# EAGLE library part JETSON_NANO (library Jetson_Nano_GPIO)
Jetson Nano GPIO
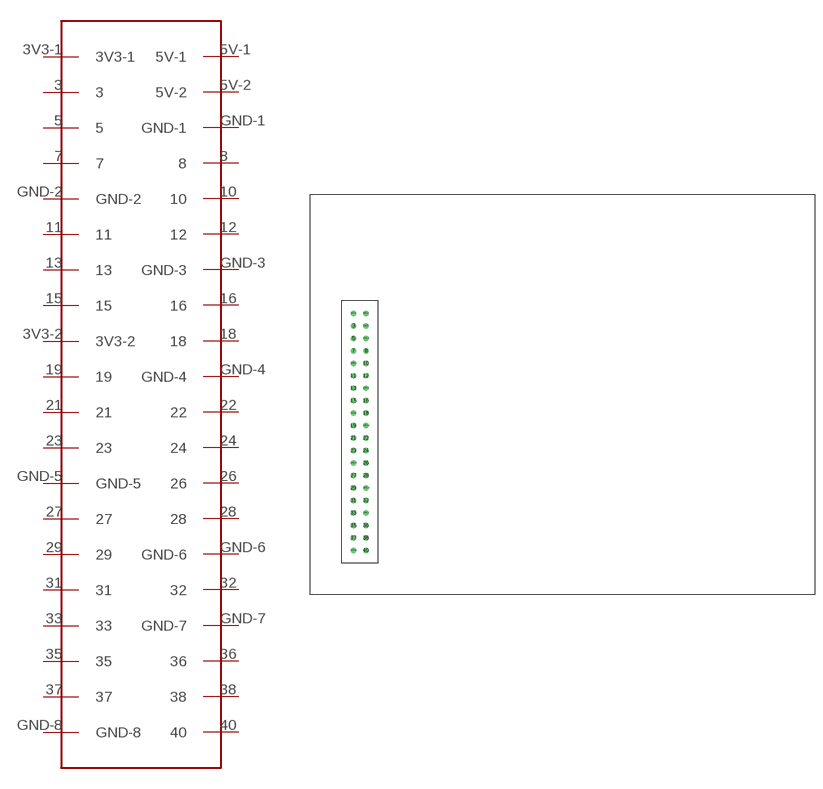
[diagram p0: symbol with the pads of JETSON_NANO; footprint JETSON_NANO]

Designator prefix JN

## JETSON_NANO  [JETSON_NANO]
3  3
3V3-1  3V3-1
3V3-2  3V3-2
5  5
5V-1  5V-1
5V-2  5V-2
7  7
8  8
10  10
11  11
12  12
13  13
15  15
16  16
18  18
19  19
21  21
22  22
23  23
24  24
26  26
27  27
28  28
29  29
31  31
32  32
33  33
35  35
36  36
37  37
38  38
40  40
GND-1  GND-1
GND-2  GND-2
GND-3  GND-3
GND-4  GND-4
GND-5  GND-5
GND-6  GND-6
GND-7  GND-7
GND-8  GND-8

## Footprint JETSON_NANO (pad centres in mm)
Jetson Nano GPIO
drill 0.6: 3 0,45.72; 3V3-1 0,48.26; 3V3-2 0,27.94; 5 0,43.18; 5V-1 2.54,48.26; 5V-2 2.54,45.72; 7 0,40.64; 8 2.54,40.64; 10 2.54,38.1; 11 0,35.56; 12 2.54,35.56; 13 0,33.02; 15 0,30.48; 16 2.54,30.48; 18 2.54,27.94; 19 0,25.4; 21 0,22.86; 22 2.54,22.86; 23 0,20.32; 24 2.54,20.32; 26 2.54,17.78; 27 0,15.24; 28 2.54,15.24; 29 0,12.7; 31 0,10.16; 32 2.54,10.16; 33 0,7.62; 35 0,5.08; 36 2.54,5.08; 37 0,2.54; 38 2.54,2.54; 40 2.54,0; GND-1 2.54,43.18; GND-2 0,38.1; GND-3 2.54,33.02; GND-4 2.54,25.4; GND-5 0,17.78; GND-6 2.54,12.7; GND-7 2.54,7.62; GND-8 0,0